# Altium schematic symbol library 74HC157D.SchLib: 1 symbol
Pins are listed as number, name and electrical type; pins without a type are passive.

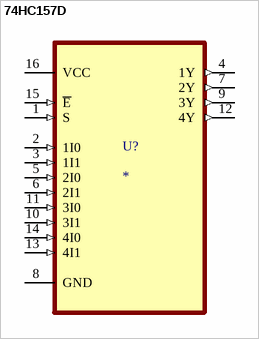
[diagram p0: symbol 74HC157D]

## 74HC157D
designator U?
Quad 2-input multiplexer; MP: 74HC157D; MF: {'manufacturer': u'Toshiba Semiconductor'}; Value: *; Package: None; Availability: Unavailable; Price: None
footprint SOIC127P600X175-16N
pins: 1 S (in), 2 1I0 (in), 3 1I1 (in), 4 1Y (out), 5 2I0 (in), 6 2I1 (in), 7 2Y (out), 8 GND, 9 3Y (out), 10 3I1 (in), 11 3I0 (in), 12 4Y (out), 13 4I1 (in), 14 4I0 (in), 15 ~{E} (in), 16 VCC (power)